# Altium footprint library Full_lib.PcbLib: 247 footprints (part 7 of 16)
Each footprint in its own frame and in the unit in brackets; x right, y up, seen from the top. Pads: shape width x height; smd on the part's side, far side on the other; paste and mask are expansions set on the pad; w line width, h text height; cw(c..) or ccw(c..) is an arc to the next point about the centre after c.
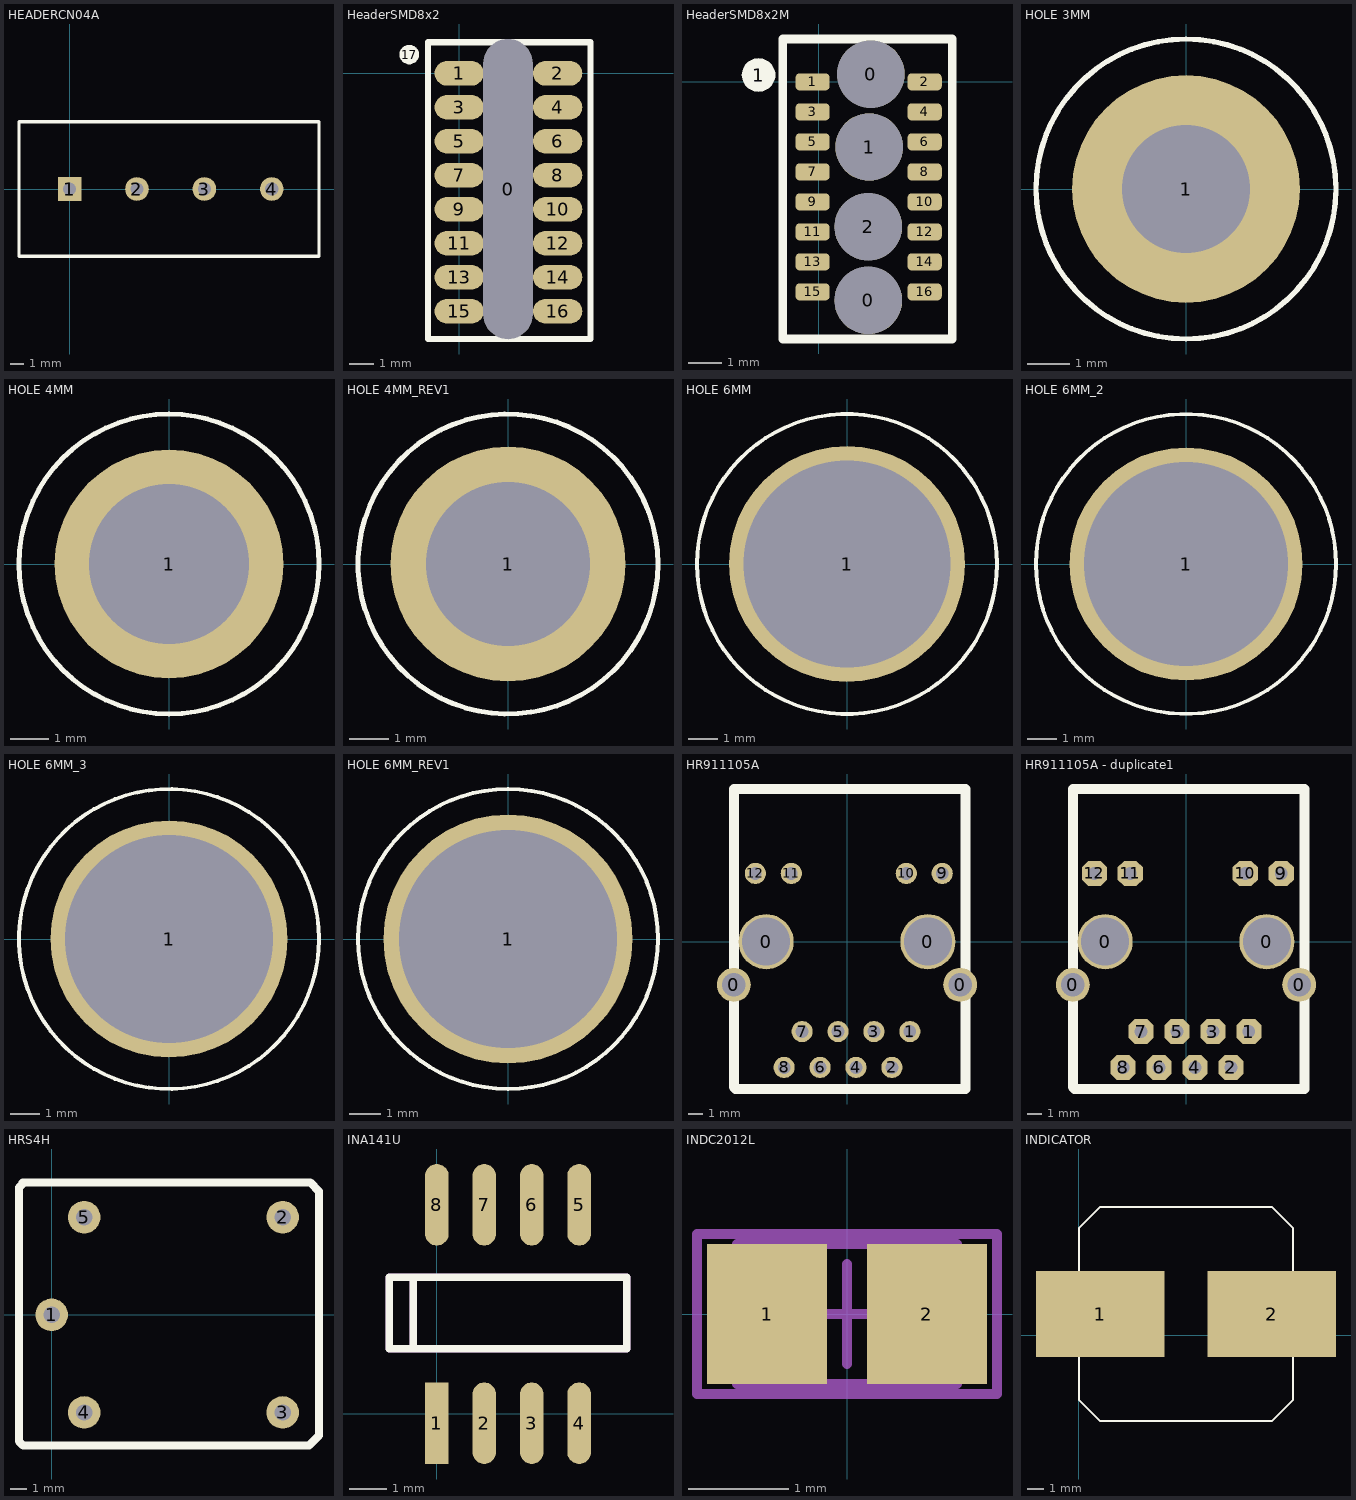
[diagram p6: the footprints below, top view; thin cyan lines are the x and y axes]

## HEADERCN04A [mil]
height 787.4
pads (4):
  rect 70x70 hole 39.37: 1(0,0)
  round 70 hole 39.37: 2(200,0) 3(400,0) 4(600,0)
Top Overlay:
  lines w10: -150,-200 -150,200 740,200 740,-200 -150,-200

## HeaderSMD8x2 [mm]
pads (18):
  rrect50% 2x10.16 hole 2 slot 12.192 at 90 deg: 0(1.981,-4.699)
  oval 2x1 smd: 1(0,0) 2(4,0) 3(0,-1.381) 4(4,-1.381) 5(0,-2.762) 6(4,-2.762) 7(0,-4.143) 8(4,-4.143) 9(0,-5.524) 10(4,-5.524) 11(0,-6.905) 12(4,-6.905) 13(0,-8.286) 14(4,-8.286) 15(0,-9.667) 16(4,-9.667)
  round 0.8 on Top Overlay: 17(-2.032,0.762)
Top Overlay:
  lines w0.254: -1.27,-10.795 -1.27,1.27 5.334,1.27 5.334,0.381 5.334,-10.795 -1.27,-10.795

## HeaderSMD8x2M [mil]
pads (21):
  round 78.74 hole 78.74: 0(58,-255) 0(61,9) 1(59,-76) 2(58,-169)
  round 39.37 on Top Overlay: 1(-70,8)
  rrect50% 40x20 smd: 1(-7,0) 2(123.74,0) 3(-7,-35) 4(123.74,-35) 5(-7,-70) 6(123.74,-70) 7(-7,-105) 8(123.74,-105) 9(-7,-140) 10(123.74,-140) 11(-7,-175) 12(123.74,-175) 13(-7,-210) 14(123.74,-210) 15(-7,-245) 16(123.74,-245)
Top Overlay:
  lines w10: -42,-300 -42,50 156,50 156,-300 -42,-300

## HOLE 3MM [mil]
pads (1):
  round 210 hole 118.1: 1(0,0)
Top Overlay:
  circle w5: c0,0 r138.29

## HOLE 4MM [mil]
pads (1):
  round 236.2 hole 165: 1(0,0)
Top Overlay:
  circle w5: c0,0 r155

## HOLE 4MM_REV1 [mil]
pads (1):
  round 236.2 hole 165: 1(0,0)
Top Overlay:
  circle w5: c0,0 r150.75

## HOLE 6MM [mm]
pads (1):
  round 8 hole 6.999: 1(0,0)
Top Overlay:
  circle w0.127: c0,0 r5.082

## HOLE 6MM_2 [mm]
pads (1):
  round 8 hole 6.999: 1(0,0)
Top Overlay:
  circle w0.127: c0,0 r5.143

## HOLE 6MM_3 [mm]
pads (1):
  round 8 hole 6.999: 1(0,0)
Top Overlay:
  circle w0.127: c0,0 r5.056

## HOLE 6MM_REV1 [mm]
pads (1):
  round 8 hole 6.999: 1(0,0)
Top Overlay:
  circle w0.127: c0,0 r4.819

## HR911105A [mm] "RJ45_LED"
height 13.44
pads (16):
  round 2.4 hole 1.65: 0(-8.001,-3.048) 0(8.001,-3.048)
  round 3.9 hole 3.4: 0(-5.715,0) 0(5.715,0)
  round 1.5 hole 0.9: 1(4.445,-6.35) 2(3.175,-8.89) 3(1.905,-6.35) 4(0.635,-8.89) 5(-0.635,-6.35) 6(-1.905,-8.89) 7(-3.175,-6.35) 8(-4.445,-8.89) 9(6.731,4.826) 10(4.191,4.826) 11(-3.937,4.826) 12(-6.477,4.826)
Top Overlay:
  lines w0.7: -8.001,10.795 8.382,10.795 8.382,-10.414 -7.874,-10.414 -8.001,-10.287 -8.001,10.668 -7.874,10.795

## HR911105A - duplicate1 [mil] "RJ45_LED"
height 529.13
pads (16):
  round 94.49 hole 64.96: 0(-315,-120) 0(315,-120)
  round 153.54 hole 133.86: 0(-225,0) 0(225,0)
  oct 70x70 hole 35.43: 1(175,-250) 2(125,-350) 3(75,-250) 4(25,-350) 5(-25,-250) 6(-75,-350) 7(-125,-250) 8(-175,-350) 9(265,190) 10(165,190) 11(-155,190) 12(-255,190)
Top Overlay:
  lines w27.56: -315,425 330,425 330,-410 -310,-410 -315,-405 -315,420 -310,425

## HRS4H [mm] "Relay"
height 23
pads (5):
  round 2 hole 1: 1(0,0) 2(14.2,6) 3(14.2,-6) 4(2,-6) 5(2,6)
Top Overlay:
  lines w0.508: -1.778,8.128 15.9,8.128 16.434,7.595 16.434,-7.417 15.824,-8.026 -1.753,-8.026 -2.007,-7.772 -2.007,7.823 -1.753,8.077

## INA141U [mil]
pads (8):
  rect 25x86 smd: 1(0,-10)
  oval 25x86 smd: 2(50,-10) 3(100,-10) 4(150,-10) 5(150,220) 6(100,220) 7(50,220) 8(0,220)
Top Overlay:
  lines w8: -25,68.5 -25,143.5 ; -50,68.5 200,68.5 200,143.5 -50,143.5 -50,68.5
Mechanical 1:
  lines w8: -25,68.5 -25,143.5 ; -50,68.5 200,68.5 200,143.5 -50,143.5 -50,68.5

## INDC2012L [mm]
pads (2):
  rect 1.2x1.4 smd: 1(-0.8,0) 2(0.8,0)
Mechanical 13:
  lines w0.1: -1.1,-0.7 1.1,-0.7 1.1,0.7 -1.1,0.7 -1.1,-0.7
Mechanical 15:
  lines w0.1: -0.5,0 0.5,0 ; 0,-0.5 0,0.5 ; -1.5,-0.8 1.5,-0.8 1.5,0.8 -1.5,0.8 -1.5,-0.8
3D body: height 0.55, standoff 0, extent -1.1,-0.7 1.1,0.7

## INDICATOR [mm] "INDICATOR"
pads (2):
  rect 7.62x5.08 smd: 1(1.27,1.27) 2(11.43,1.27)
Top Overlay:
  lines w0.127: 0,-1.27 0,-3.81 1.27,-5.08 11.43,-5.08 12.7,-3.81 12.7,-1.27 ; 0,3.81 0,6.35 1.27,7.62 11.43,7.62 12.7,6.35 12.7,3.81